# EAGLE library part DRV134 (library wheat)
Audio line driver INA134, THAT, etc.
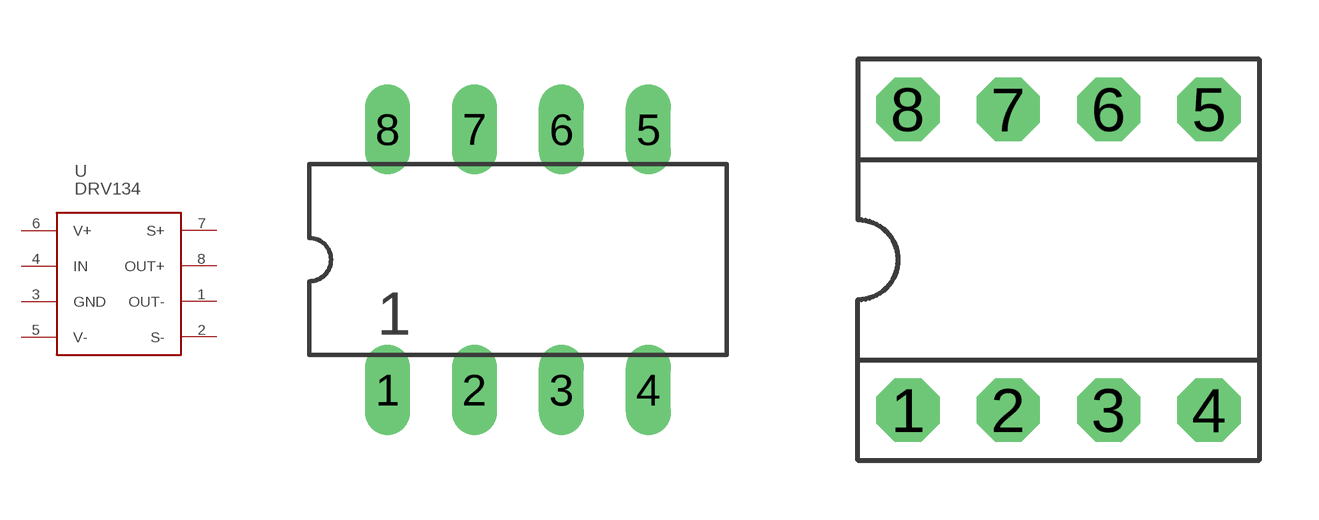
[diagram p114: symbol with the pads of DIP8; footprints DIP8, DIP-08]

Designator prefix U

## DRV134  [DIP8]
1  OUT-  out
2  S-  in
3  GND  pas
4  IN  in
5  V-  pas
6  V+  pas
7  S+  in
8  OUT+  out

## DRV134_S  [DIP-08]
Pads as for DIP8

## DRV134_SD  [SO8_DIP8]
1  OUT-  out
1T  OUT-  out
2  S-  in
2T  S-  in
3  GND  pas
3T  GND  pas
4  IN  in
4T  IN  in
5  V-  pas
5T  V-  pas
6  V+  pas
6T  V+  pas
7  S+  in
7T  S+  in
8  OUT+  out
8T  OUT+  out

## Footprint DIP8 (pad centres in mm)
DIP8 .300 centers
drill 0.813 long: 1 0,0; 2 2.54,0; 3 5.08,0; 4 7.62,0; 5 7.62,7.62; 6 5.08,7.62; 7 2.54,7.62; 8 0,7.62

## Footprint DIP-08 (pad centres in mm)
drill 0.813 pad 1.6 octagon: 1 -3.81,-3.81; 2 -1.27,-3.81; 3 1.27,-3.81; 4 3.81,-3.81; 5 3.81,3.81; 6 1.27,3.81; 7 -1.27,3.81; 8 -3.81,3.81

## Footprint SO8_DIP8 (pad centres in mm)
smd 2.2 x 0.6: 1 -2.6,1.905; 2 -2.6,0.635; 3 -2.6,-0.635; 4 -2.6,-1.905; 5 2.6,-1.905; 6 2.6,-0.635; 7 2.6,0.635; 8 2.6,1.905
drill 0.813 square: 1T -3.81,-3.81
drill 0.813: 2T -1.27,-3.81; 3T 1.27,-3.81; 4T 3.81,-3.81; 5T 3.81,3.81; 6T 1.27,3.81; 7T -1.27,3.81; 8T -3.81,3.81